# Altium schematic symbol library SCH - ANALOG FRONT END - TI ADS1292.SCHLIB: 1 symbol
Pins are listed as number, name and electrical type; pins without a type are passive.

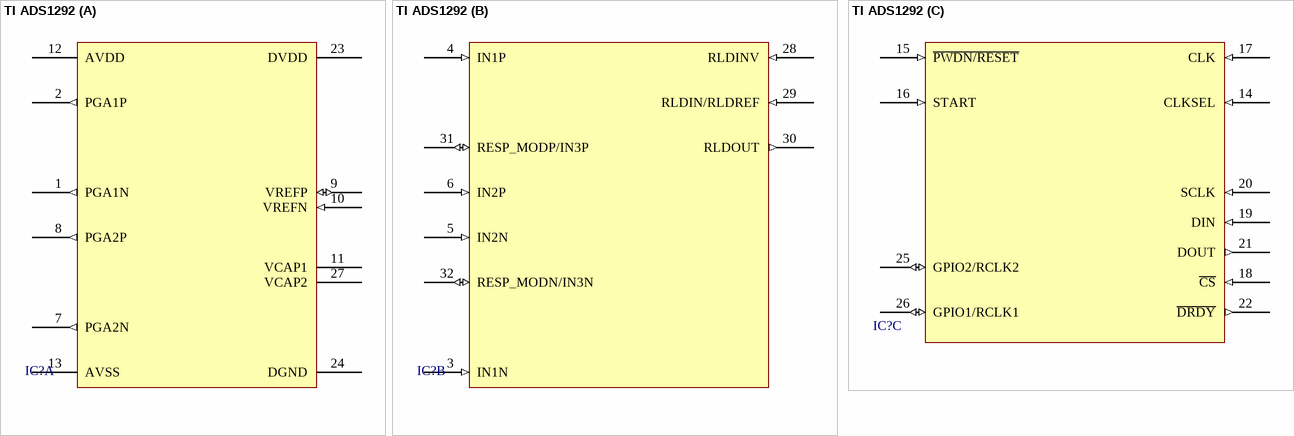
[diagram p0: symbol TI ADS1292]

## TI ADS1292
designator IC?
part A pins: 1 PGA1N (out), 2 PGA1P (out), 7 PGA2N (out), 8 PGA2P (out), 9 VREFP (io), 10 VREFN (in), 11 VCAP1, 12 AVDD (power), 13 AVSS (power), 23 DVDD (power), 24 DGND (power), 27 VCAP2
part B pins: 3 IN1N (in), 4 IN1P (in), 5 IN2N (in), 6 IN2P (in), 28 RLDINV (in), 29 RLDIN/RLDREF (in), 30 RLDOUT (out), 31 RESP_MODP/IN3P (io), 32 RESP_MODN/IN3N (io)
part C pins: 14 CLKSEL (in), 15 ~{PWDN/RESET} (in), 16 START (in), 17 CLK (in), 18 ~{CS} (in), 19 DIN (in), 20 SCLK (in), 21 DOUT (out), 22 ~{DRDY} (out), 25 GPIO2/RCLK2 (io), 26 GPIO1/RCLK1 (io)